# Altium footprint library TRANS_POWER.PcbLib: 19 footprints (part 1 of 2)
Each footprint in its own frame and in the unit in brackets; x right, y up, seen from the top. Pads: shape width x height; smd on the part's side, far side on the other; paste and mask are expansions set on the pad; w line width, h text height; cw(c..) or ccw(c..) is an arc to the next point about the centre after c.
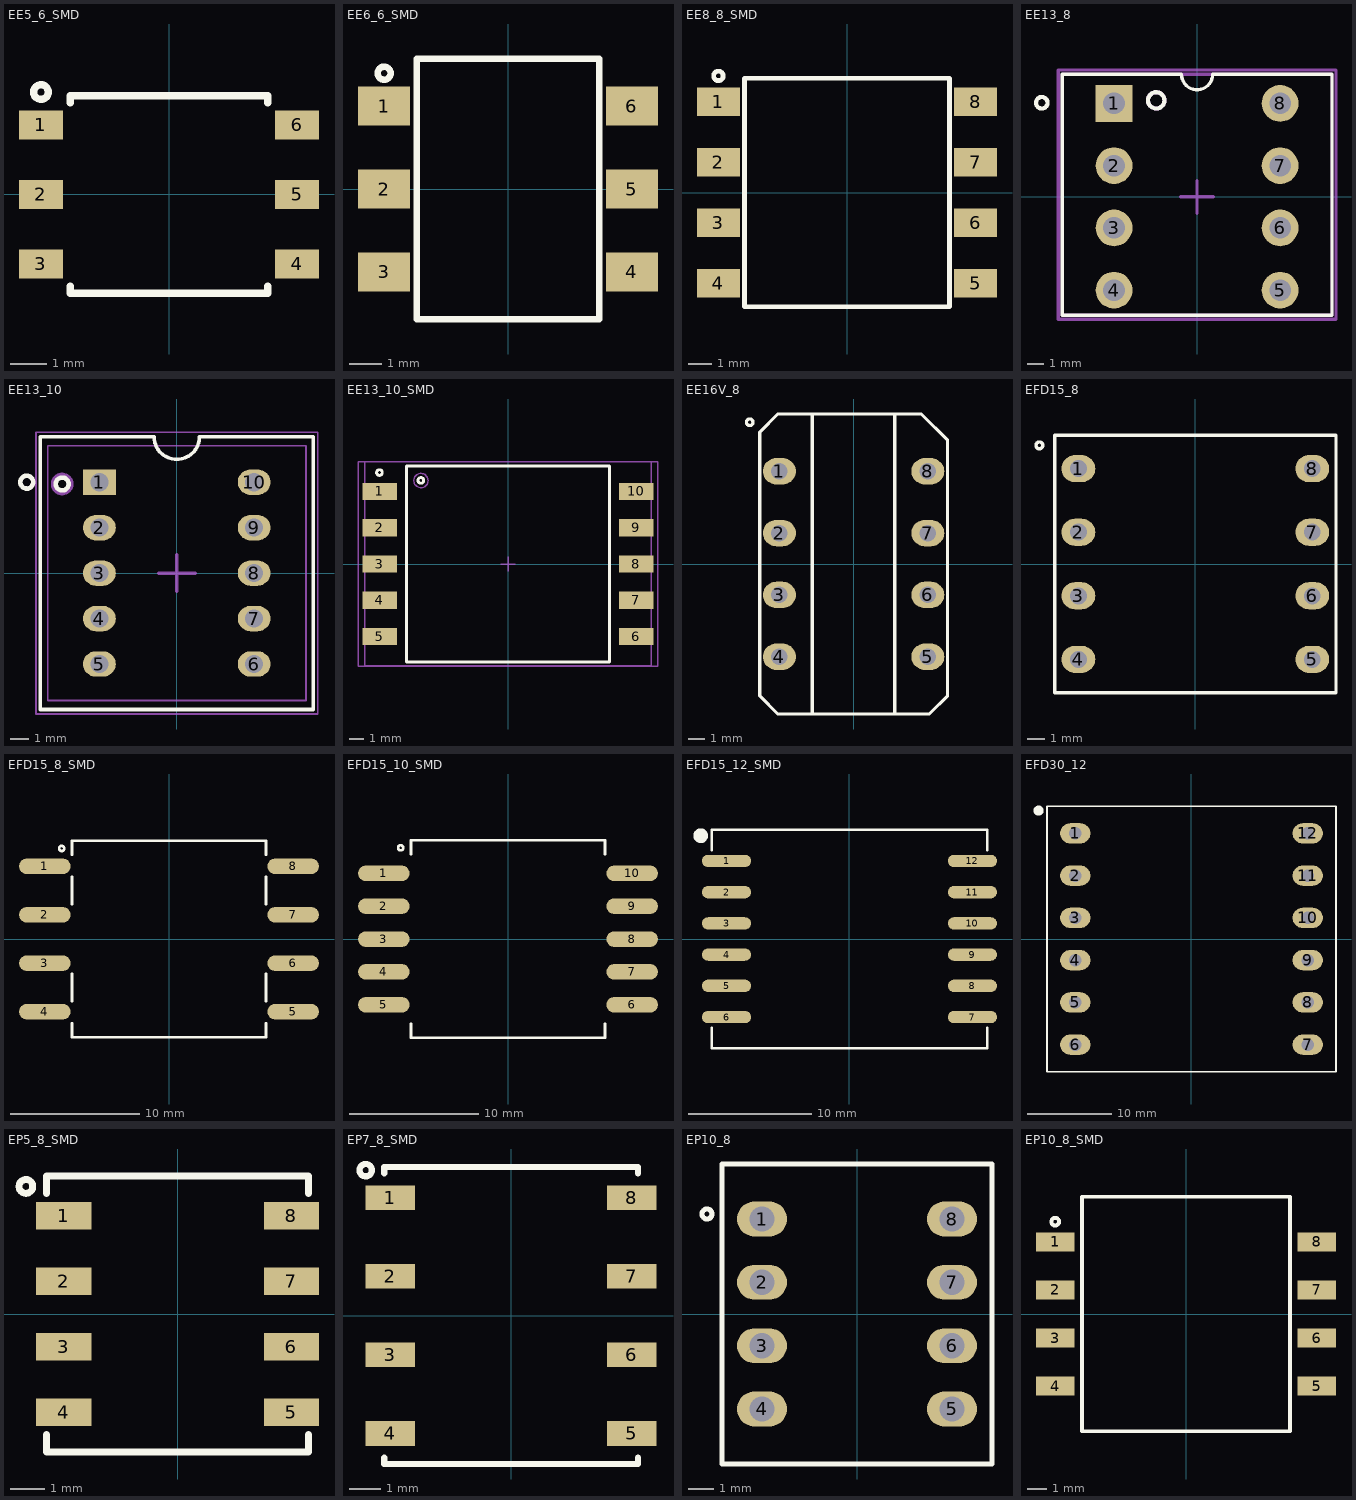
[diagram p0: the footprints below, top view; thin cyan lines are the x and y axes]

## EE5_6_SMD [mm] "TRANS, EE5 3+3, Pitch 1.85mm"
height 10
pads (6):
  rect 1.2x0.8 smd paste-0.1: 1(-3.5,1.9) 2(-3.5,0) 3(-3.5,-1.9) 4(3.5,-1.9) 5(3.5,0) 6(3.5,1.9)
Top Overlay:
  circle w0.2: c-3.5,2.8 r0.2
  lines w0.2: -2.7,-2.5 -2.7,-2.7 2.7,-2.7 2.7,-2.5 ; -2.7,2.5 -2.7,2.7 2.7,2.7 2.7,2.5
3D body: height 0.8, standoff 0, extent -3.9,-0.3 -2.5,0.3
3D body: height 1.6, standoff 0.1, extent -2.5,-2.6 -1.5,2.6
3D body "E5.step": height -2, standoff -4, extent -2.62,-2.641 2.63,2.641
3D body: height 0.8, standoff 0, extent -3.9,1.6 -2.5,2.2
3D body: height 0.8, standoff 0, extent -3.9,-2.2 -2.5,-1.6
3D body: height 0.8, standoff 0, extent 2.5,1.6 3.9,2.2
3D body: height 0.8, standoff 0, extent 2.5,-2.2 3.9,-1.6
3D body: height 0.8, standoff 0, extent 2.5,-0.3 3.9,0.3
3D body: height 1.6, standoff 0.1, extent 1.5,-2.6 2.5,2.6

## EE6_6_SMD [mm] "TRANS, E 6.3 3+3, Pitch 2.54mm"
height 10.5
pads (6):
  rect 1.6x1.2 smd paste-0.2: 1(-3.8,2.54) 2(-3.8,0) 3(-3.8,-2.54) 4(3.8,-2.54) 5(3.8,0) 6(3.8,2.54)
Top Overlay:
  circle w0.2: c-3.8,3.55 r0.2
  lines w0.2: -2.8,-4 -2.8,4 2.8,4 2.8,-4 -2.8,-4

## EE8_8_SMD [mm] "TRANS, E 8.8 4+4, Pitch 2.54mm"
height 10.5
pads (8):
  rect 1.8x1.2 smd paste-0.2: 1(-5.4,3.81) 2(-5.4,1.27) 3(-5.4,-1.27) 4(-5.4,-3.81) 5(5.4,-3.81) 6(5.4,-1.27) 7(5.4,1.27) 8(5.4,3.81)
Top Overlay:
  circle w0.2: c-5.4,4.9 r0.2
  lines w0.2: -4.3,-4.8 4.3,-4.8 4.3,4.8 -4.3,4.8 -4.3,-4.8

## EE13_8 [mm] "TRANS, EE13 4+4, Pitch 2.7mm"
height 12.7
pads (8):
  rect 2.25x2.25 hole 1.32: 1(-5.08,5.715)
  round 2.25 hole 1.32: 2(-5.08,1.905) 3(-5.08,-1.905) 4(-5.08,-5.715) 5(5.08,-5.715) 6(5.08,-1.905) 7(5.08,1.905) 8(5.08,5.715)
Top Overlay:
  circle w0.254: c-9.5,5.75 r0.354
  circle w0.254: c-2.5,5.9 r0.5
  lines w0.2: 0.953,7.5 cw(c0,7.5) -0.953,7.5 -8.25,7.5 -8.25,-7.25 8.25,-7.25 8.25,7.5 1,7.5
Mechanical 13:
  circle w0.254: c-2.5,5.9 r0.5
  lines w0.2: -8.25,-7.25 8.25,-7.25 8.25,7.5 -8.25,7.5 -8.25,-7.25
Mechanical 15:
  lines w0.2: -1,0 1,0 ; 0,-1 0,1 ; -8.5,-7.5 -8.5,7.75 8.5,7.75 8.5,-7.5 -8.5,-7.5
  text ".Designator" at 0,0 h0.5
3D body "070-4849.stp": height 11.75, standoff -3.44, extent -8,-7 8,7.2

## EE13_10 [mm] "TRANS, EE13 5+5 Body 13.72x19.66mm, Pitch 2.54mm"
height 15.24
pads (10):
  rect 1.8x1.4 hole 1: 1(-4.255,5)
  oval 1.8x1.4 hole 1: 2(-4.255,2.5) 3(-4.255,0) 4(-4.255,-2.5) 5(-4.255,-5) 6(4.255,-5) 7(4.255,-2.5) 8(4.255,0) 9(4.255,2.5) 10(4.255,5)
Top Overlay:
  circle w0.254: c-8.25,5 r0.354
  circle w0.254: c-6.3,4.9 r0.354
  lines w0.2: -7.5,-7.5 -7.5,7.5 -1.25,7.5 ccw(c0,7.5) 1.25,7.5 7.5,7.5 7.5,-7.5 -7.5,-7.5
Mechanical 13:
  circle w0.254: c-6.3,4.9 r0.5
  lines w0.1: -7.1,-7 -7.1,7 7.1,7 7.1,-7 -7.1,-7
Mechanical 15:
  lines w0.1: -7.75,-7.75 -7.75,7.75 7.75,7.75 7.75,-7.75 -7.75,-7.75
  lines w0.2: -1,0 1,0 ; 0,-1 0,1
  text ".Designator" at 0,0 h0.5
3D body "070-2860.stp": height 13.93, standoff -2.85, extent -6.909,-6.8 6.909,6.83

## EE13_10_SMD [mm] "TRANS, EE13 5+5 Body 13.72x19.66mm, Pitch 2.54mm"
height 10.5
pads (10):
  rect 2.4x1.2 smd: 1(-8.975,5.08) 2(-8.975,2.54) 3(-8.975,0) 4(-8.975,-2.54) 5(-8.975,-5.08) 6(8.975,-5.08) 7(8.975,-2.54) 8(8.975,0) 9(8.975,2.54) 10(8.975,5.08)
Top Overlay:
  circle w0.2: c-9,6.4 r0.2
  circle w0.2: c-6.1,5.85 r0.2
  lines w0.2: -7.1,-6.85 -7.1,6.85 7.1,6.85 7.1,-6.85 -7.1,-6.85
Mechanical 13:
  circle w0.1: c-6.096,5.842 r0.5
  lines w0.1: -10.033,-7.112 -10.033,7.15 10.033,7.15 10.033,-7.112 -10.033,-7.112
Mechanical 15:
  lines w0.1: -0.5,0 0.5,0 ; 0,-0.5 0,0.5 ; -10.5,-7.15 -10.5,7.15 10.5,7.15 10.5,-7.15 -10.5,-7.15
3D body "EE13-7-4-4820-2300.STEP": height 9.4, standoff 0.01, extent -9.6,-6.687 9.6,6.733

## EE16V_8 [mm] "TRANS, EE-16 4+4 Vertical, pitch: 3.8mm"
height 18
pads (8):
  oval 2x1.6 hole 1 unplated: 1(-4.5,5.625) 2(-4.5,1.875) 3(-4.5,-1.875) 4(-4.5,-5.625) 5(4.5,-5.625) 6(4.5,-1.875) 7(4.5,1.875) 8(4.5,5.625)
Top Overlay:
  circle w0.2: c-6.3,8.6 r0.2
  lines w0.2: -2.5,-9.1 -2.5,9.1 ; 2.5,-9.1 2.5,9.1 ; -5.7,-8 -5.7,8 -4.6,9.1 4.1,9.1 5.7,7.5 5.7,-8 4.6,-9.1 -4.6,-9.1 -5.7,-8
3D body "EE16.step": height 19.9, standoff -2, extent -6.3,-9 6.3,9

## EFD15_8 [mm] "TRANS, EFD15/8/5  15X8X5mm, pitch: 3.75mm"
pads (8):
  oval 2x1.6 hole 1 unplated: 1(-6.9,5.625) 2(-6.9,1.875) 3(-6.9,-1.875) 4(-6.9,-5.625) 5(6.9,-5.625) 6(6.9,-1.875) 7(6.9,1.875) 8(6.9,5.625)
Top Overlay:
  circle w0.2: c-9.2,7 r0.2
  lines w0.2: -8.3,-7.6 8.3,-7.6 8.3,7.6 -8.3,7.6 -8.3,-7.6
3D body "User Library-EDF15.step": height 6.91, standoff -4.89, extent -8.232,-7.65 8.2,7.65

## EFD15_8_SMD [mm] "TRANS, EFD15/8/5  15X8X5mm, pitch: 3.75mm"
height 5
pads (8):
  oval 4x1.2 smd: 1(-9.6,5.625) 2(-9.6,1.875) 3(-9.6,-1.875) 4(-9.6,-5.625) 5(9.6,-5.625) 6(9.6,-1.875) 7(9.6,1.875) 8(9.6,5.625)
Top Overlay:
  circle w0.2: c-8.3,7 r0.2
  lines w0.2: -7.5,-6.5 -7.5,-7.6 7.5,-7.6 7.5,-6.5 ; -7.5,-4.8 -7.5,-2.7 ; -7.5,2.7 -7.5,4.8 ; -7.5,6.5 -7.5,7.6 7.5,7.6 7.5,6.5 ; 7.5,-4.8 7.5,-2.7 ; 7.5,2.7 7.5,4.8
3D body "User Library-EFD 15-8-5.STEP": height 8.27, standoff 0.07, extent -10.682,-7.5 10.668,7.5

## EFD15_10_SMD [mm] "TRANS, EFD15/8/5  15X8X5mm, pitch: 2.54mm"
height 5
pads (10):
  oval 4x1.2 smd: 1(-9.6,5.08) 2(-9.6,2.54) 3(-9.6,0) 4(-9.6,-2.54) 5(-9.6,-5.08) 6(9.6,-5.08) 7(9.6,-2.54) 8(9.6,0) 9(9.6,2.54) 10(9.6,5.08)
Top Overlay:
  circle w0.2: c-8.3,7.055 r0.2
  lines w0.2: -7.5,-6.545 -7.5,-7.645 7.5,-7.645 7.5,-6.545 ; -7.5,6.555 -7.5,7.655 7.5,7.655 7.5,6.555
3D body "User Library-EFD 15-8-5.STEP": height 8.27, standoff 0.07, extent -10.682,-7.545 10.668,7.455

## EFD15_12_SMD [mm] "TRANS, EFD15/8/5  15X8X5mm, pitch: 2.54mm"
height 5
pads (12):
  oval 4x1 smd: 1(-10,6.35) 2(-10,3.81) 3(-10,1.27) 4(-10,-1.27) 5(-10,-3.81) 6(-10,-6.35) 7(10,-6.35) 8(10,-3.81) 9(10,-1.27) 10(10,1.27) 11(10,3.81) 12(10,6.35)
Top Overlay:
  circle w0.6: c-12.1,8.4 r0.3
  lines w0.2: -11.2,-7.2 -11.2,-8.9 11.2,-8.9 11.2,-7.2 ; -11.2,7.2 -11.2,8.9 11.2,8.9 11.2,7.2
3D body "EFD15.stp": height 8.3, standoff 0, extent -11.05,-8.75 11.05,8.75

## EFD30_12 [mm] "TRANS, EFD30  30X15X9mm, pitch: 5.08mm"
height 35
pads (12):
  oval 3.6x2.4 hole 1.5: 1(-13.75,12.5) 2(-13.75,7.5) 3(-13.75,2.5) 4(-13.75,-2.5) 5(-13.75,-7.5) 6(-13.75,-12.5) 7(13.75,-12.5) 8(13.75,-7.5) 9(13.75,-2.5) 10(13.75,2.5) 11(13.75,7.5) 12(13.75,12.5)
Top Overlay:
  circle w0.6: c-18.1,15.2 r0.3
  lines w0.2: -17.1,-15.7 -17.1,15.7 17.1,15.7 17.1,-15.7 -17.1,-15.7
3D body "EFD30-2.step": height 11, standoff -5.1, extent -17,-15.6 17,15.6

## EP5_8_SMD [mm] "TRANS, EP5 4+4, Pitch 1.9mm"
height 10
pads (8):
  rect 1.6x0.8 smd paste-0.2: 1(-3.3,2.85) 2(-3.3,0.95) 3(-3.3,-0.95) 4(-3.3,-2.85) 5(3.3,-2.85) 6(3.3,-0.95) 7(3.3,0.95) 8(3.3,2.85)
Top Overlay:
  circle w0.2: c-4.4,3.7 r0.2
  lines w0.2: -3.8,-3.5 -3.8,-4 3.8,-4 3.8,-3.5 ; -3.8,3.5 -3.8,4 3.8,4 3.8,3.5
3D body: height 1, standoff 0, extent -2.9,2.6 -2.5,3.1
3D body: height 3.5, standoff 1, extent -3.7,-3.9 -1.9,3.9
3D body: height 7.5, standoff 3.5, extent -3.7,-3.9 3.7,3.9
3D body: height 0.4, standoff 0, extent -3.9,2.6 -2.5,3.1
3D body: height 3.5, standoff 1, extent 1.9,-3.9 3.7,3.9
3D body: height 0.4, standoff 0, extent -3.9,0.7 -2.5,1.2
3D body: height 1, standoff 0, extent -2.9,0.7 -2.5,1.2
3D body: height 0.4, standoff 0, extent -3.9,-1.2 -2.5,-0.7
3D body: height 1, standoff 0, extent -2.9,-1.2 -2.5,-0.7
3D body: height 0.4, standoff 0, extent -3.9,-3.1 -2.5,-2.6
3D body: height 1, standoff 0, extent -2.9,-3.1 -2.5,-2.6
3D body: height 1, standoff 0, extent 2.5,-3.1 2.9,-2.6
3D body: height 0.4, standoff 0, extent 2.5,-3.1 3.9,-2.6
3D body: height 1, standoff 0, extent 2.5,-1.2 2.9,-0.7
3D body: height 0.4, standoff 0, extent 2.5,-1.2 3.9,-0.7
3D body: height 1, standoff 0, extent 2.5,0.7 2.9,1.2
3D body: height 0.4, standoff 0, extent 2.5,0.7 3.9,1.2
3D body: height 0.4, standoff 0, extent 2.5,2.6 3.9,3.1
3D body: height 1, standoff 0, extent 2.5,2.6 2.9,3.1

## EP7_8_SMD [mm] "TRANS, EP7 4+4, Pitch 2.54mm"
height 10
pads (8):
  rect 1.6x0.8 smd paste-0.2: 1(-3.9,3.81) 2(-3.9,1.27) 3(-3.9,-1.27) 4(-3.9,-3.81) 5(3.9,-3.81) 6(3.9,-1.27) 7(3.9,1.27) 8(3.9,3.81)
Top Overlay:
  circle w0.2: c-4.7,4.7 r0.2
  lines w0.2: -4.1,-4.6 -4.1,-4.8 4.1,-4.8 4.1,-4.6 ; -4.1,4.6 -4.1,4.8 4.1,4.8 4.1,4.6
3D body: height 0.4, standoff 0, extent -4.4,3.55 -3,4.05
3D body: height 10, standoff 4, extent -4,-4.7 4,4.7
3D body: height 4, standoff 1, extent 2,-4.7 4,4.7
3D body: height 4, standoff 1, extent -4,-4.7 -2,4.7
3D body: height 1, standoff 0, extent -3.4,3.55 -3,4.05
3D body: height 1, standoff 0, extent -3.4,1.01 -3,1.51
3D body: height 0.4, standoff 0, extent -4.4,1.01 -3,1.51
3D body: height 1, standoff 0, extent -3.4,-1.53 -3,-1.03
3D body: height 0.4, standoff 0, extent -4.4,-1.53 -3,-1.03
3D body: height 1, standoff 0, extent -3.4,-4.07 -3,-3.57
3D body: height 0.4, standoff 0, extent -4.4,-4.07 -3,-3.57
3D body: height 0.4, standoff 0, extent 3,-4.07 4.4,-3.57
3D body: height 1, standoff 0, extent 3,-4.07 3.4,-3.57
3D body: height 0.4, standoff 0, extent 3,-1.53 4.4,-1.03
3D body: height 1, standoff 0, extent 3,-1.53 3.4,-1.03
3D body: height 0.4, standoff 0, extent 3,1.01 4.4,1.51
3D body: height 1, standoff 0, extent 3,1.01 3.4,1.51
3D body: height 1, standoff 0, extent 3,3.55 3.4,4.05
3D body: height 0.4, standoff 0, extent 3,3.55 4.4,4.05

## EP10_8 [mm] "TRANS, EP10 4+4, Pitch 2.54mm"
height 10
pads (8):
  oval 2x1.4 hole 1 paste-0.2: 1(-3.8,3.8) 2(-3.8,1.27) 3(-3.8,-1.27) 4(-3.8,-3.8) 5(3.8,-3.8) 6(3.8,-1.27) 7(3.8,1.27) 8(3.8,3.8)
Top Overlay:
  circle w0.2: c-6,4 r0.2
  lines w0.2: -5.4,-6 -5.4,6 5.4,6 5.4,-6 -5.4,-6
3D body "EP10Rev1.STEP": height 11.18, standoff -3.12, extent -5.5,-6 5.5,5.7

## EP10_8_SMD [mm] "TRANS, EP10 4+4, Pitch 2.54mm"
height 10
pads (8):
  rect 2x1 smd paste-0.2: 1(-6.8,3.75) 2(-6.8,1.25) 3(-6.8,-1.25) 4(-6.8,-3.75) 5(6.8,-3.75) 6(6.8,-1.25) 7(6.8,1.25) 8(6.8,3.75)
Top Overlay:
  circle w0.2: c-6.8,4.8 r0.2
  lines w0.2: -5.4,-6.1 -5.4,6.1 5.4,6.1 5.4,-6.1 -5.4,-6.1
3D body "ep10_070-6052 (rev1).STEP": height 10.78, standoff 0, extent -7.32,-6.065 7.3,6.065